# Altium footprint library RESC2012X65N.PcbLib: 1 footprints
Each footprint in its own frame and in the unit in brackets; x right, y up, seen from the top. Pads: shape width x height; smd on the part's side, far side on the other; paste and mask are expansions set on the pad; w line width, h text height; cw(c..) or ccw(c..) is an arc to the next point about the centre after c.
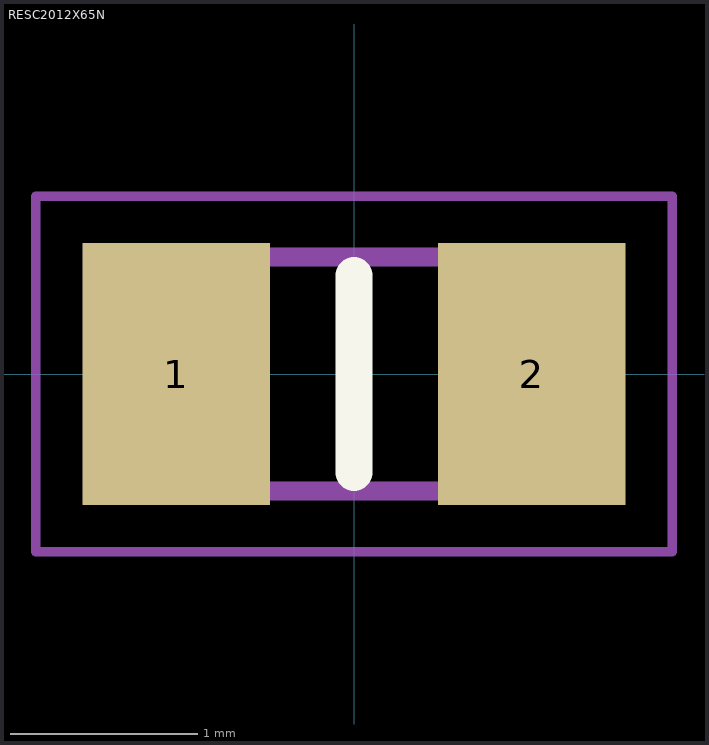
[diagram p0: the footprint, top view; thin cyan lines are the x and y axes]

## RESC2012X65N [mm]
pads (2):
  rect 1x1.4 smd: 1(-0.95,0) 2(0.95,0)
L26-Silk Screen Top (Multiple PADS layers...):
  lines w0.2: 0,-0.525 0,0.525
L15 (Multiple PADS layers...):
  lines w0.1: -1,-0.625 -1,0.625 1,0.625 1,-0.625 -1,-0.625
L20:
  lines w0.05: -1.7,-0.95 -1.7,0.95 1.7,0.95 1.7,-0.95 -1.7,-0.95
3D body "KTR10EZPF5103.stp": height 0.65, standoff 0, extent -1,-0.625 1,0.625